# Altium integrated library Integrated_Library2.IntLib: 1 symbol
Pins are listed as number, name and electrical type; pins without a type are passive.

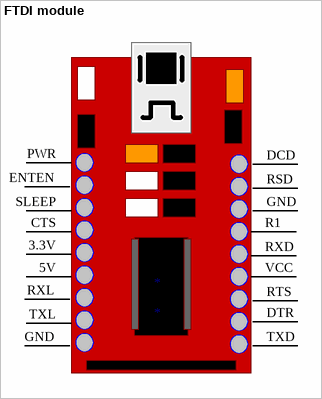
[diagram p0: symbol FTDI module]

## FTDI module
designator *
footprint FTDI module
pins: 3.3V, 5V, CTS, DCD, DTR, ENTEN, GND, GND, PWR, R1, RSD, RTS, RXD, RXL, SLEEP, TXD, TXL, VCC